# Altium integrated library pca64142.IntLib: 5 symbols
Pins are listed as number, name and electrical type; pins without a type are passive.

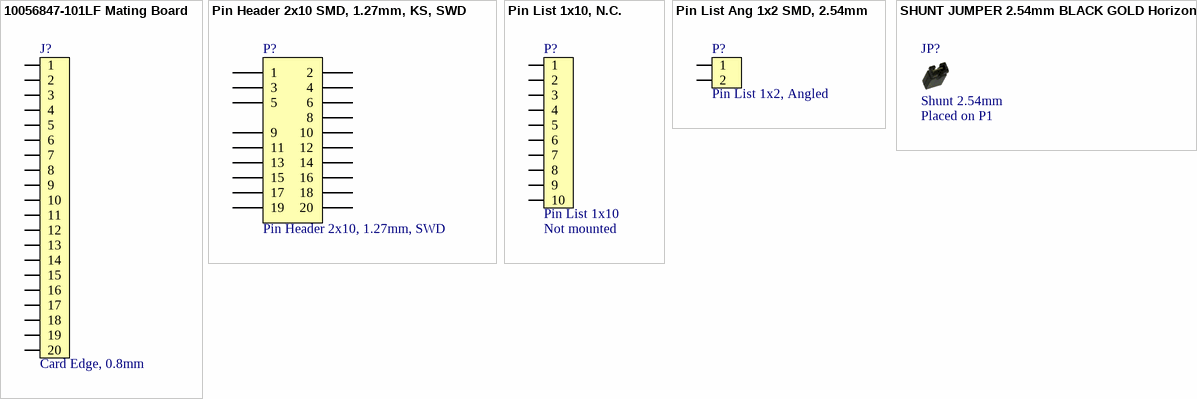
[diagram p0: symbols 10056847-101LF Mating Board to SHUNT JUMPER 2.54mm BLACK GOLD Horizontal]

## 10056847-101LF Mating Board
designator J?, comment Card Edge, 0.8mm  (no BOM)
0.8mm pitch, dual edge, card edge connector; Part Number: 10056847-101LF Mating Board; Manufacturer: N.A.; Pad Count: 20; Manufacturer Part Number: N.A.; Footprint Doc: 10056847-101LF Mating Board; LatestRevisionDate: 2018-05-09; Published: 2018-05-09; Value: Card Edge, 0.8mm; Note: N.A.; Artikkelnr Noca: N.A.; Part number IPS: N.A.; ComponentLink1URL: https://www.amphenol-icc.com/media/wysiwyg/files/drawing/10056847.pdf; ComponentLink1Description: Datasheet; ComponentLink2URL: N.A.; ComponentLink2Description: Supplier link; HelpURL: N.A.; Supplier 1: N.A.; Supplier Part Number 1: N.A.; Supplier 2: N.A.; Supplier Part Number 2: N.A.; PartId: 100500634; Component Class: Connectors
footprint 10056847-101LF Mating Board
pins: 1, 2, 3, 4, 5, 6, 7, 8, 9, 10, 11, 12, 13, 14, 15, 16, 17, 18, 19, 20

## Pin Header 2x10 SMD, 1.27mm, KS, SWD
designator P?, comment Pin Header 2x10, 1.27mm, SWD
Pin Header 2x10, 1.27mm (50mil), SMD, Keying Shroud, Removed Pin 7; Part Number: Pin Header 2x10 SMD, 1.27mm, KS, SWD; Manufacturer: W-CON; Manufacturer Part Number: 3132-20MS0BK00R1; Note: N.A.; Pad Count: 20; ComponentLink1URL: N.A.; ComponentLink1Description: Datasheet; ComponentLink2URL: N.A.; ComponentLink2Description: Supplier link; HelpURL: N.A.; Footprint Doc: HDR_2x10-SMD-1.27mm-SWD; LatestRevisionDate: 2017-10-23; Published: 2014-05-23; Value: Pin Header 2x10, 1.27mm, SWD; Supplier 1: Cabcon; Supplier Part Number 1: 3132-20MS0BK00R1; Supplier 2: Digi-Key; Supplier Part Number 2: FTSH-110-01-F-DV-K-ND; Artikkelnr Noca: N.A.; Part number IPS: N.A.; Component Class: Connectors; PartId: 100500280
footprint HDR_2x10-SMD-1.27mm-K-SWD
pins: 1, 2, 3, 4, 5, 6, 8, 9, 10, 11, 12, 13, 14, 15, 16, 17, 18, 19, 20

## Pin List 1x10, N.C.
designator P?, comment Pin List 1x10  Assembly: Not mounted
Pin List 1x10, 2.54mm (100mil); Part Number: Pin List 1x10, N.C.; Manufacturer: N.A.; Pad Count: 10; Manufacturer Part Number: N.A.; ComponentLink1URL: N.A.; ComponentLink1Description: Datasheet; ComponentLink2URL: N.A.; ComponentLink2Description: Supplier link; HelpURL: N.A.; Footprint Doc: LIST_1x10; LatestRevisionDate: 2017-10-23; Published: 2017-10-23; Value: Pin List 1x10; Note: N.A.; Supplier 1: N.A.; Supplier Part Number 1: N.A.; Supplier 2: N.A.; Supplier Part Number 2: N.A.; Artikkelnr Noca: N.A.; Part number IPS: N.A.; Component Class: Connectors; PartId: 100500336
footprint LIST_1x10-NC
pins: 1, 2, 3, 4, 5, 6, 7, 8, 9, 10

## Pin List Ang 1x2 SMD, 2.54mm
designator P?, comment Pin List 1x2, Angled
Pin List 1x2, 2.54mm (100mil), Right Angled, SMD; Part Number: Pin List Ang 1x2 SMD, 2.54mm; Manufacturer: W-CON; Manufacturer Part Number: 1125B-1102S0Z135R2; Part number IPS: 00000009972; Note: N.A.; Artikkelnr Noca: 55010023; Pad Count: 2; Footprint Doc: LIST_ANG_1x2-SMD-2.54MM; LatestRevisionDate: 2016-05-26; Published: 2016-01-22; Value: Pin List 1x2, Angled; ComponentLink1URL: N.A.; ComponentLink1Description: Datasheet; ComponentLink2URL: N.A.; ComponentLink2Description: Supplier link; HelpURL: \\hizz\pro\app9717\Datasheet\connectors\W-CON\1125B-11XXXXZXXXXX.pdf; Supplier 1: Cabcon; Supplier Part Number 1: 1125B-1102S0Z135R2; Supplier 2: Samtec; Supplier Part Number 2: TSM-102-01-L-SH-A; PartId: 100500354; Component Class: Connectors
footprint LIST_ANG_1x2-SMD-2.54MM
pins: 1, 2

## SHUNT JUMPER 2.54mm BLACK GOLD Horizontal
designator JP?, comment Shunt 2.54mm  Assembly: Placed on P1
Shunt Jumper 2.54mm Black; Part Number: SHUNT JUMPER 2.54mm BLACK GOLD Horizontal; Manufacturer: 3M; Manufacturer Part Number: 969102-0000-DA; Part number IPS: 00000001916; Pad Count: 2; Note: SHUNT JUMPER .1" BLACK GOLD, h=6.00mm, w=5.00mm; Artikkelnr Noca: 56099001; PartId: 100500644; Component Class: Connectors; ComponentLink1URL: N.A.; ComponentLink1Description: Datasheet; ComponentLink2URL: N.A.; ComponentLink2Description: Supplier link; HelpURL: http://www.digikey.com/product-detail/en/969102-0000-DA; Footprint Doc: SHUNT JUMPER 2.54mm; LatestRevisionDate: 2020-10-23; Published: 2019-09-04; Value: Shunt 2.54mm; Supplier 1: Digi-Key; Supplier Part Number 1: 3M9580-ND; Supplier 2: N.A.; Supplier Part Number 2: N.A.
footprint Shunt_2.54mm_Horizontal